# Altium integrated library Regulator_Linear.IntLib: 1 symbol
Pins are listed as number, name and electrical type; pins without a type are passive.

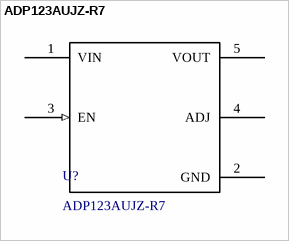
[diagram p0: symbol ADP123AUJZ-R7]

## ADP123AUJZ-R7
designator U?
Linear Voltage Regulator IC Positive Adjustable 1 Output 300mA TSOT-23-5; Manufacturer 1: Analog Devices Inc.; Voltage - Input (Max): 5.5 V; Voltage - Output (Min/Fixed): 0.8 V; Voltage - Output (Max): 5 V; Voltage Dropout (Max): 0.15 V @ 300 mA; Current - Quiescent (Iq): 105 µA; Current - Supply (Max): 240 µA; PSRR: 60dB (10kHz ~ 100kHz); Control Features: Enable; Protection Features: Over Current, Over Temperature, Under Voltage Lockout (UVLO); Manufacturer Part Number 1: ADP123AUJZ-R7; Supplier 1: Digi-Key; Supplier Part Number 1: 505-ADP123AUJZ-R7CT-ND; Current - Output: 300 mA; Operating Temperature: -40°C ~ 125°C
footprint SOT95P280X100-5N (SOT23, 5-Leads, Body 2.90x2.80mm, Pitch 0.95mm, IPC Medium Density)
pins: 1 VIN, 2 GND, 3 EN (in), 4 ADJ, 5 VOUT